# Altium footprint library Net-Tie-I3.PcbLib: 50 footprints (part 1 of 4)
Each footprint in its own frame and in the unit in brackets; x right, y up, seen from the top. Pads: shape width x height; smd on the part's side, far side on the other; paste and mask are expansions set on the pad; w line width, h text height; cw(c..) or ccw(c..) is an arc to the next point about the centre after c.
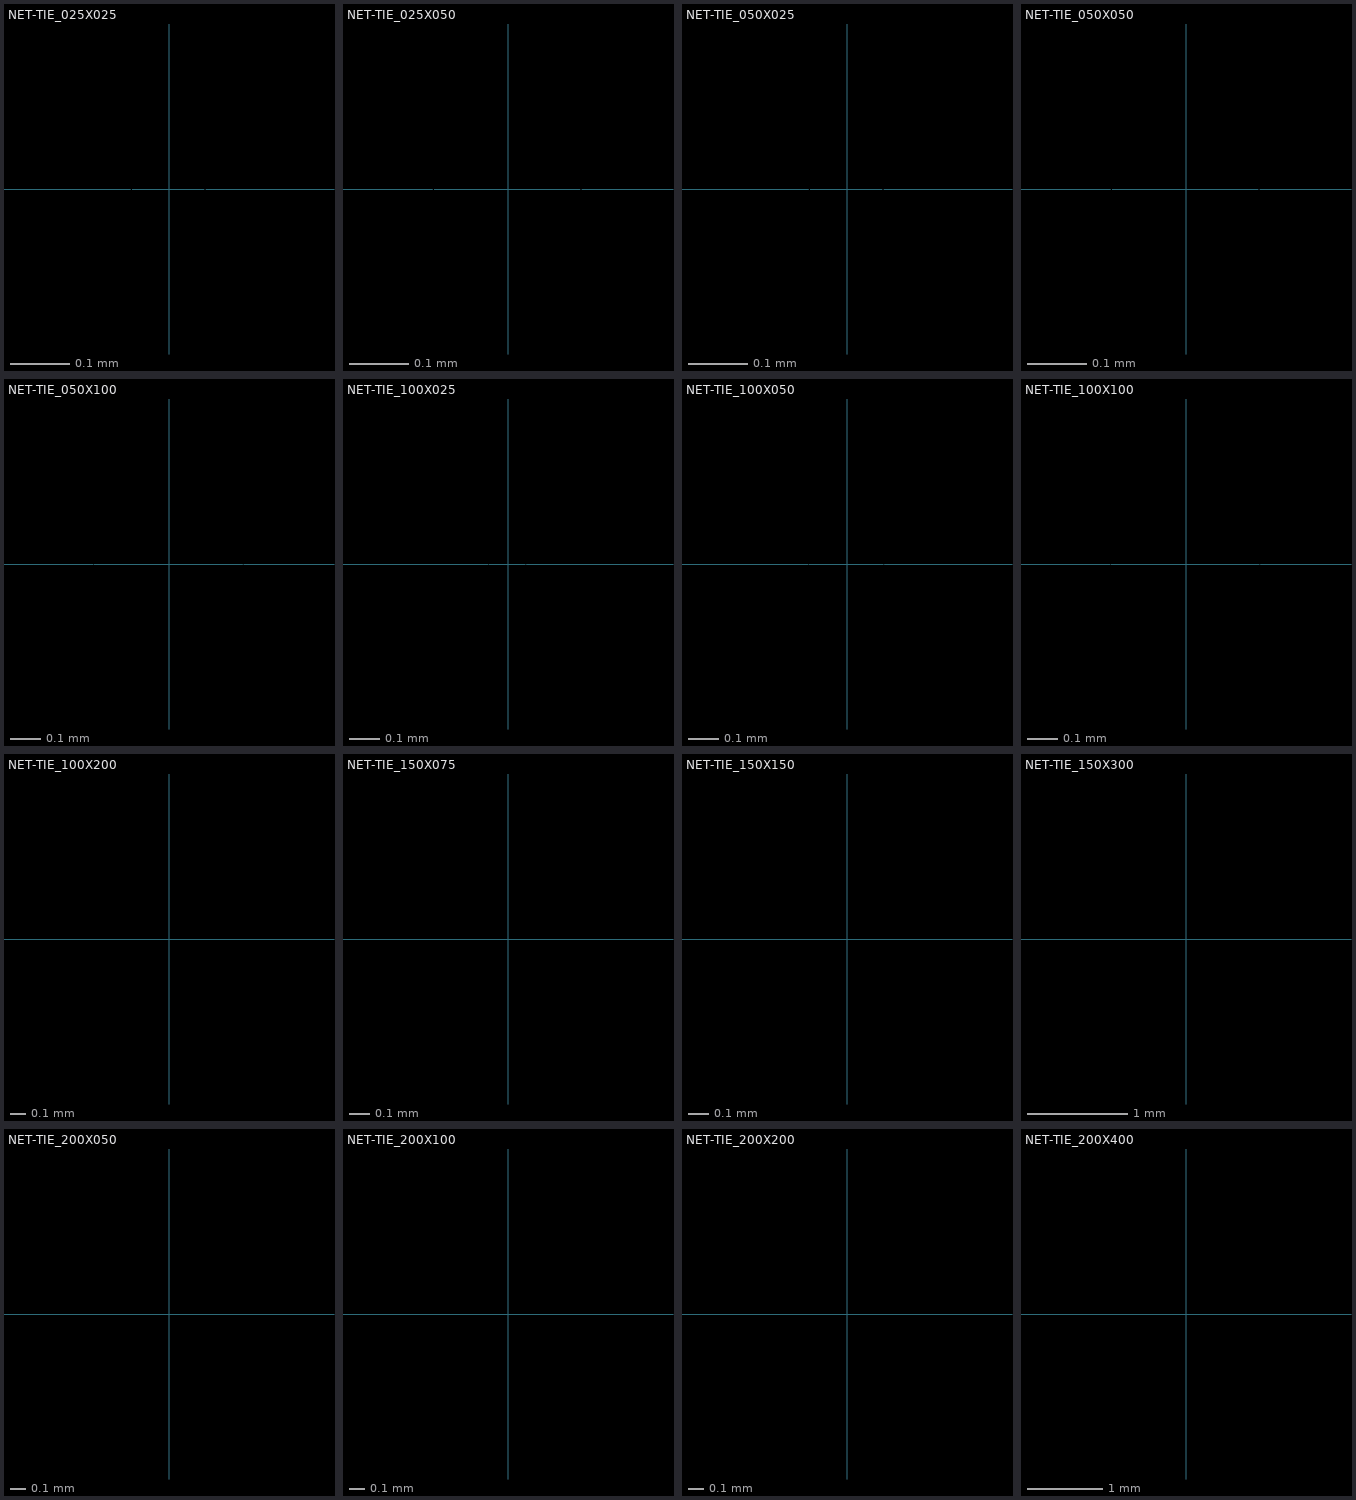
[diagram p0: the footprints below, top view; thin cyan lines are the x and y axes]

## NET-TIE_025X025 [mil]
pads (2):
  round 1 on Mid3 paste-99999 mask+4: 1(-2.46,0) 2(2.46,0)
Inner 3:
  region: -4.92,-2.46 -4.92,-2.95 -4.55,-3.85 -3.85,-4.55 -2.95,-4.92 -2.46,-4.92 0,-4.92 0,4.92 -2.46,4.92 -2.95,4.92 -3.85,4.55 -4.55,3.85 -4.92,2.95 -4.92,2.46
  region: 2.46,-4.92 0,-4.92 0,4.92 2.46,4.92 2.95,4.92 3.85,4.55 4.55,3.85 4.92,2.95 4.92,2.46 4.92,-2.46 4.92,-2.95 4.55,-3.85 3.85,-4.55 2.95,-4.92

## NET-TIE_025X050 [mil]
pads (2):
  round 1 on Mid3 paste-99999 mask+4: 1(-4.92,0) 2(4.92,0)
Inner 3:
  region: 4.92,-4.92 0,-4.92 0,4.92 4.92,4.92 5.9,4.92 7.71,4.17 9.09,2.79 9.84,0.98 9.84,0 9.84,-0.98 9.09,-2.79 7.71,-4.17 5.9,-4.92
  region: -4.92,-4.92 -5.9,-4.92 -7.71,-4.17 -9.09,-2.79 -9.84,-0.98 -9.84,0 -9.84,0.98 -9.09,2.79 -7.71,4.17 -5.9,4.92 -4.92,4.92 0,4.92 0,-4.92

## NET-TIE_050X025 [mil]
pads (2):
  round 1 on Mid3 paste-99999 mask+4: 1(-2.46,0) 2(2.46,0)
Inner 3:
  region: 2.46,-9.84 0,-9.84 0,9.84 2.46,9.84 2.95,9.84 3.85,9.47 4.55,8.78 4.92,7.87 4.92,7.38 4.92,-7.38 4.92,-7.87 4.55,-8.78 3.85,-9.47 2.95,-9.84
  region: -4.92,-7.38 -4.92,-7.87 -4.55,-8.78 -3.85,-9.47 -2.95,-9.84 -2.46,-9.84 0,-9.84 0,9.84 -2.46,9.84 -2.95,9.84 -3.85,9.47 -4.55,8.78 -4.92,7.87 -4.92,7.38

## NET-TIE_050X050 [mil]
pads (2):
  round 1 on Mid3 paste-99999 mask+4: 1(-4.92,0) 2(4.92,0)
Inner 3:
  region: -9.84,-4.92 -9.84,-5.9 -9.09,-7.71 -7.71,-9.09 -5.9,-9.84 -4.92,-9.84 0,-9.84 0,9.84 -4.92,9.84 -5.9,9.84 -7.71,9.09 -9.09,7.71 -9.84,5.9 -9.84,4.92
  region: 4.92,-9.84 0,-9.84 0,9.84 4.92,9.84 5.9,9.84 7.71,9.09 9.09,7.71 9.84,5.9 9.84,4.92 9.84,-4.92 9.84,-5.9 9.09,-7.71 7.71,-9.09 5.9,-9.84

## NET-TIE_050X100 [mil]
pads (2):
  round 1 on Mid3 paste-99999 mask+4: 1(-9.84,0) 2(9.84,0)
Inner 3:
  region: -9.84,-9.84 -10.81,-9.84 -12.71,-9.46 -14.5,-8.72 -16.12,-7.65 -17.49,-6.27 -18.56,-4.66 -19.31,-2.87 -19.68,-0.97 -19.68,0 -19.68,0.97 -19.31,2.87 -18.56,4.66 -17.49,6.27 -16.12,7.65 -14.5,8.72 -12.71,9.46 -10.81,9.84 -9.84,9.84 0,9.84 0,-9.84
  region: 9.84,-9.84 0,-9.84 0,9.84 9.84,9.84 10.81,9.84 12.71,9.46 14.5,8.72 16.12,7.65 17.49,6.27 18.56,4.66 19.31,2.87 19.68,0.97 19.68,0 19.68,-0.97 19.31,-2.87 18.56,-4.66 17.49,-6.27 16.12,-7.65 14.5,-8.72 12.71,-9.46 10.81,-9.84

## NET-TIE_100X025 [mil]
pads (2):
  round 1 on Mid3 paste-99999 mask+4: 1(-2.46,0) 2(2.46,0)
Inner 3:
  region: 2.46,-19.69 0,-19.69 0,19.69 2.46,19.69 2.95,19.69 3.85,19.31 4.55,18.62 4.92,17.71 4.92,17.22 4.92,-17.22 4.92,-17.71 4.55,-18.62 3.85,-19.31 2.95,-19.69
  region: -4.92,-17.22 -4.92,-17.71 -4.55,-18.62 -3.85,-19.31 -2.95,-19.69 -2.46,-19.69 0,-19.69 0,19.69 -2.46,19.69 -2.95,19.69 -3.85,19.31 -4.55,18.62 -4.92,17.71 -4.92,17.22

## NET-TIE_100X050 [mil]
pads (2):
  round 1 on Mid3 paste-99999 mask+4: 1(-4.92,0) 2(4.92,0)
Inner 3:
  region: 4.92,-19.69 0,-19.69 0,19.69 4.92,19.69 5.9,19.69 7.71,18.94 9.09,17.55 9.84,15.74 9.84,14.76 9.84,-14.76 9.84,-15.74 9.09,-17.55 7.71,-18.94 5.9,-19.69
  region: -9.84,-14.76 -9.84,-15.74 -9.09,-17.55 -7.71,-18.94 -5.9,-19.69 -4.92,-19.69 0,-19.69 0,19.69 -4.92,19.69 -5.9,19.69 -7.71,18.94 -9.09,17.55 -9.84,15.74 -9.84,14.76

## NET-TIE_100X100 [mil]
pads (2):
  round 1 on Mid3 paste-99999 mask+4: 1(-9.84,0) 2(9.84,0)
Inner 3:
  region: 9.84,-19.69 0,-19.69 0,19.69 9.84,19.69 10.81,19.69 12.71,19.31 14.5,18.56 16.12,17.49 17.49,16.12 18.56,14.5 19.31,12.71 19.68,10.81 19.68,9.84 19.68,-9.84 19.68,-10.81 19.31,-12.71 18.56,-14.5 17.49,-16.12 16.12,-17.49 14.5,-18.56 12.71,-19.31 10.81,-19.69
  region: -19.68,-9.84 -19.68,-10.81 -19.31,-12.71 -18.56,-14.5 -17.49,-16.12 -16.12,-17.49 -14.5,-18.56 -12.71,-19.31 -10.81,-19.69 -9.84,-19.69 0,-19.69 0,19.69 -9.84,19.69 -10.81,19.69 -12.71,19.31 -14.5,18.56 -16.12,17.49 -17.49,16.12 -18.56,14.5 -19.31,12.71 -19.68,10.81 -19.68,9.84

## NET-TIE_100X200 [mil]
pads (2):
  round 1 on Mid3 paste-99999 mask+4: 1(-19.68,0) 2(19.68,0)
Inner 3:
  region: 19.68,-19.69 0,-19.69 0,19.69 19.68,19.69 21.62,19.68 25.43,18.93 29.01,17.44 32.23,15.29 34.98,12.55 37.13,9.32 38.61,5.74 39.37,1.94 39.37,0 39.37,-1.94 38.61,-5.74 37.13,-9.32 34.98,-12.55 32.23,-15.29 29.01,-17.44 25.43,-18.93 21.62,-19.69
  region: -19.68,-19.69 -21.62,-19.69 -25.43,-18.93 -29.01,-17.44 -32.23,-15.29 -34.98,-12.55 -37.13,-9.32 -38.61,-5.74 -39.37,-1.94 -39.37,0 -39.37,1.94 -38.61,5.74 -37.13,9.32 -34.98,12.55 -32.23,15.29 -29.01,17.44 -25.43,18.93 -21.62,19.69 -19.68,19.69 0,19.69 0,-19.69

## NET-TIE_150X075 [mil]
pads (2):
  round 1 on Mid3 paste-99999 mask+4: 1(-7.38,0) 2(7.38,0)
Inner 3:
  region: 7.38,-29.53 0,-29.53 0,29.53 7.38,29.53 8.11,29.53 9.54,29.24 10.88,28.69 12.09,27.88 13.12,26.85 13.92,25.64 14.48,24.3 14.76,22.87 14.76,22.15 14.76,-22.15 14.76,-22.87 14.48,-24.3 13.92,-25.64 13.12,-26.85 12.09,-27.88 10.88,-28.69 9.54,-29.24 8.11,-29.53
  region: -14.76,-22.15 -14.76,-22.87 -14.48,-24.3 -13.92,-25.64 -13.12,-26.85 -12.09,-27.88 -10.88,-28.69 -9.54,-29.24 -8.11,-29.53 -7.38,-29.53 0,-29.53 0,29.53 -7.38,29.53 -8.11,29.53 -9.54,29.24 -10.88,28.69 -12.09,27.88 -13.12,26.85 -13.92,25.64 -14.48,24.3 -14.76,22.87 -14.76,22.15

## NET-TIE_150X150 [mil]
pads (2):
  round 1 on Mid3 paste-99999 mask+4: 1(-14.76,0) 2(14.76,0)
Inner 3:
  region: -29.53,-14.76 -29.53,-16.22 -28.96,-19.07 -27.85,-21.76 -26.23,-24.18 -24.18,-26.23 -21.76,-27.85 -19.07,-28.96 -16.22,-29.53 -14.76,-29.53 0,-29.53 0,29.53 -14.76,29.53 -16.22,29.53 -19.07,28.96 -21.76,27.85 -24.18,26.23 -26.23,24.18 -27.85,21.76 -28.96,19.07 -29.53,16.22 -29.53,14.76
  region: 14.76,-29.53 0,-29.53 0,29.53 14.76,29.53 16.22,29.53 19.07,28.96 21.76,27.85 24.18,26.23 26.23,24.18 27.85,21.76 28.96,19.07 29.53,16.22 29.53,14.76 29.53,-14.76 29.53,-16.22 28.96,-19.07 27.85,-21.76 26.23,-24.18 24.18,-26.23 21.76,-27.85 19.07,-28.96 16.22,-29.53

## NET-TIE_150X300 [mil]
pads (2):
  round 1 on Mid3 paste-99999 mask+4: 1(-29.53,0) 2(29.53,0)
Inner 3:
  region: -29.53,-29.53 -31.46,-29.53 -35.3,-29.02 -39.04,-28.02 -42.62,-26.54 -45.97,-24.6 -49.04,-22.25 -51.78,-19.51 -54.13,-16.44 -56.07,-13.09 -57.55,-9.51 -58.55,-5.77 -59.06,-1.94 -59.06,0 -59.06,1.94 -58.55,5.77 -57.55,9.51 -56.07,13.09 -54.13,16.44 -51.78,19.51 -49.04,22.25 -45.97,24.6 -42.62,26.54 -39.04,28.02 -35.3,29.02 -31.46,29.53 -29.53,29.53 0,29.53 0,-29.53
  region: 29.53,-29.53 0,-29.53 0,29.53 29.53,29.53 31.46,29.53 35.3,29.02 39.04,28.02 42.62,26.54 45.97,24.6 49.04,22.25 51.78,19.51 54.13,16.44 56.07,13.09 57.55,9.51 58.55,5.77 59.06,1.94 59.06,0 59.06,-1.94 58.55,-5.77 57.55,-9.51 56.07,-13.09 54.13,-16.44 51.78,-19.51 49.04,-22.25 45.97,-24.6 42.62,-26.54 39.04,-28.02 35.3,-29.02 31.46,-29.53

## NET-TIE_200X050 [mil]
pads (2):
  round 1 on Mid3 paste-99999 mask+4: 1(-4.92,0) 2(4.92,0)
Inner 3:
  region: -9.84,-34.45 -9.84,-35.43 -9.09,-37.24 -7.71,-38.62 -5.9,-39.37 -4.92,-39.37 0,-39.37 0,39.37 -4.92,39.37 -5.9,39.37 -7.71,38.62 -9.09,37.24 -9.84,35.43 -9.84,34.45
  region: 4.92,-39.37 0,-39.37 0,39.37 4.92,39.37 5.9,39.37 7.71,38.62 9.09,37.24 9.84,35.43 9.84,34.45 9.84,-34.45 9.84,-35.43 9.09,-37.24 7.71,-38.62 5.9,-39.37

## NET-TIE_200X100 [mil]
pads (2):
  round 1 on Mid3 paste-99999 mask+4: 1(-9.84,0) 2(9.84,0)
Inner 3:
  region: -19.68,-29.53 -19.68,-30.5 -19.31,-32.4 -18.56,-34.19 -17.49,-35.8 -16.12,-37.17 -14.5,-38.25 -12.71,-38.99 -10.81,-39.37 -9.84,-39.37 0,-39.37 0,39.37 -9.84,39.37 -10.81,39.37 -12.71,38.99 -14.5,38.25 -16.12,37.17 -17.49,35.8 -18.56,34.19 -19.31,32.4 -19.68,30.5 -19.68,29.53
  region: 9.84,-39.37 0,-39.37 0,39.37 9.84,39.37 10.81,39.37 12.71,38.99 14.5,38.25 16.12,37.17 17.49,35.8 18.56,34.19 19.31,32.4 19.68,30.5 19.68,29.53 19.68,-29.53 19.68,-30.5 19.31,-32.4 18.56,-34.19 17.49,-35.8 16.12,-37.17 14.5,-38.25 12.71,-38.99 10.81,-39.37

## NET-TIE_200X200 [mil]
pads (2):
  round 1 on Mid3 paste-99999 mask+4: 1(-19.68,0) 2(19.68,0)
Inner 3:
  region: -39.37,-19.68 -39.37,-21.62 -38.61,-25.43 -37.13,-29.01 -34.98,-32.23 -32.23,-34.98 -29.01,-37.13 -25.43,-38.61 -21.62,-39.37 -19.68,-39.37 0,-39.37 0,39.37 -19.68,39.37 -21.62,39.37 -25.43,38.61 -29.01,37.13 -32.23,34.98 -34.98,32.23 -37.13,29.01 -38.61,25.43 -39.37,21.62 -39.37,19.68
  region: 19.68,-39.37 0,-39.37 0,39.37 19.68,39.37 21.62,39.37 25.43,38.61 29.01,37.13 32.23,34.98 34.98,32.23 37.13,29.01 38.61,25.43 39.37,21.62 39.37,19.68 39.37,-19.68 39.37,-21.62 38.61,-25.43 37.13,-29.01 34.98,-32.23 32.23,-34.98 29.01,-37.13 25.43,-38.61 21.62,-39.37

## NET-TIE_200X400 [mil]
pads (2):
  round 1 on Mid3 paste-99999 mask+4: 1(-39.37,0) 2(39.37,0)
Inner 3:
  region: -39.37,-39.37 -41.95,-39.37 -47.07,-38.7 -52.05,-37.36 -56.82,-35.39 -61.29,-32.81 -65.38,-29.66 -69.03,-26.01 -72.18,-21.92 -74.76,-17.45 -76.73,-12.68 -78.07,-7.7 -78.74,-2.58 -78.74,0 -78.74,2.58 -78.07,7.7 -76.73,12.68 -74.76,17.45 -72.18,21.92 -69.03,26.01 -65.38,29.66 -61.29,32.81 -56.82,35.39 -52.05,37.36 -47.07,38.7 -41.95,39.37 -39.37,39.37 0,39.37 0,-39.37
  region: 39.37,-39.37 0,-39.37 0,39.37 39.37,39.37 41.95,39.37 47.07,38.7 52.05,37.36 56.82,35.39 61.29,32.81 65.38,29.66 69.03,26.01 72.18,21.92 74.76,17.45 76.73,12.68 78.07,7.7 78.74,2.58 78.74,0 78.74,-2.58 78.07,-7.7 76.73,-12.68 74.76,-17.45 72.18,-21.92 69.03,-26.01 65.38,-29.66 61.29,-32.81 56.82,-35.39 52.05,-37.36 47.07,-38.7 41.95,-39.37